# Altium schematic symbol library Schlib1.最小系统.SchLib: 25 symbols
Pins are listed as number, name and electrical type; pins without a type are passive.

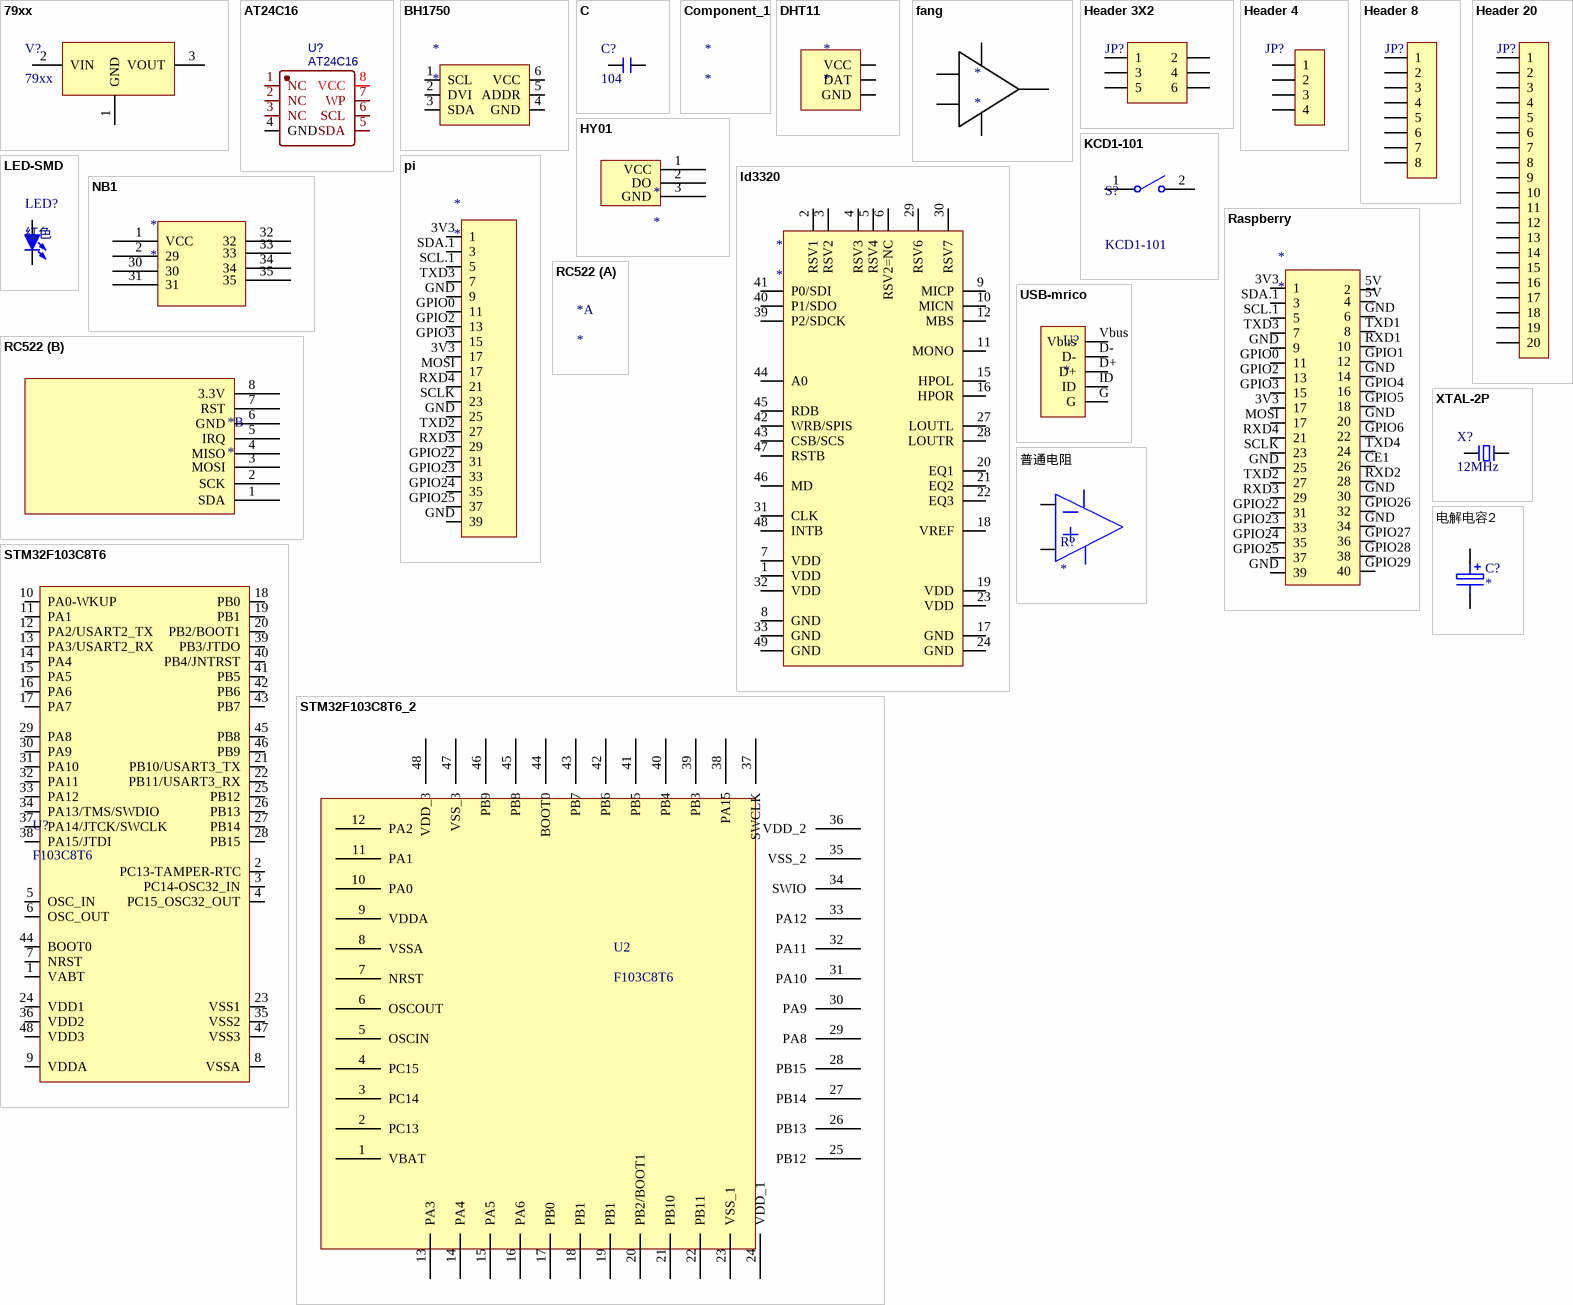
[diagram p0: symbols 79xx to 电解电容2]

## 79xx
designator V?
线性稳压芯片; 版权归属: 源创客; BOM名称: 线性稳压芯片; 学习资源: www.ooocke.com
footprint SOT-223
pins: 1 GND, 2 VIN, 3 VOUT

## AT24C16
designator U?
BOM_Manufacturer: IDCHIP; Contributor: LCSC; BOM_Supplier: LCSC; BOM_Supplier Part: C561263; BOM_Manufacturer Part: AT24C16; spicePre: U; spiceSymbolName: AT24C16
footprint SOP-8_L5.0-W4.0-P1.27-LS6.0-BL
pins: 1 NC, 2 NC, 3 NC, 4 GND, 5 SDA, 6 SCL, 7 WP, 8 VCC

## BH1750
designator *
pins: 1 SCL, 2 DVI, 3 SDA, 4 GND, 5 ADDR, 6 VCC

## C
designator C?, comment 104
无极性贴片电容; 版权归属: 源创客; BOM名称: 无极性贴片电容; 学习资源: www.ooocke.com
footprint 0603C (1.6mmx0.8mm（蒜米工坊）)
pins: 1, 2

## Component_1
designator *

## DHT11
designator *
pins: SDA.23 GND, SDA.24 DAT, VCC

## fang
designator *

## Header 3X2
designator JP?, comment Header3X2  (value not drawn)
3*2P接插件; 版权归属: 源创客; BOM名称: 3*2P接插件; 学习资源: www.ooocke.com
footprint HDR2.54-LI-2x3P (双排排针，3x2脚)
pins: 1, 2, 3, 4, 5, 6

## Header 4
designator JP?, comment HDR-1X4  (value not drawn)
4P接插件; 版权归属: 源创客; BOM名称: 4P接插件; 学习资源: www.ooocke.com
footprint HDR2.54-LI-4P (排针，4脚)
footprint HDR2.54-LI-4P (排针，4脚)
pins: 1, 2, 3, 4

## Header 8
designator JP?, comment HDR-1X8  (value not drawn)
8P接插件; 版权归属: 源创客; BOM名称: 8P接插件; 学习资源: www.ooocke.com
footprint HDR2.54-LI-8P (排针，8脚)
pins: 1, 2, 3, 4, 5, 6, 7, 8

## Header 20
designator JP?, comment HDR-1X20  (value not drawn)
20P接插件; 版权归属: 源创客; BOM名称: 20P接插件; 学习资源: www.ooocke.com
footprint HDR2.54-LI-20P (排针，20脚)
footprint HDR2.54-LI-20P (排针，20脚)
pins: 1, 2, 3, 4, 5, 6, 7, 8, 9, 10, 11, 12, 13, 14, 15, 16, 17, 18, 19, 20

## HY01
designator *
pins: 1 VCC, 2 DO, 3 GND

## KCD1-101
designator S?
1路单刀船型开关; 版权归属: 源创客; BOM名称: 1路单刀船型开关; 学习资源: www.ooocke.com
footprint TSW SMD-3*6*5 (3*6*5mm)
pins: 1, 2

## ld3320
designator *
pins: 1 VDD, 2 RSV1, 3 RSV2, 4 RSV3, 5 RSV4, 6 RSV2=NC, 7 VDD, 8 GND, 9 MICP, 10 MICN, 11 MONO, 12 MBS, 15 HPOL, 16 HPOR, 17 GND, 18 VREF, 19 VDD, 20 EQ1, 21 EQ2, 22 EQ3, 23 VDD, 24 GND, 27 LOUTL, 28 LOUTR, 29 RSV6, 30 RSV7, 31 CLK, 32 VDD, 33 GND, 39 P2/SDCK, 40 P1/SDO, 41 P0/SDI, 42 WRB/SPIS, 43 CSB/SCS, 44 A0, 45 RDB, 46 MD, 47 RSTB, 48 INTB, 49 GND

## LED-SMD
designator LED?, comment 红色
贴片LED; 版权归属: 源创客; BOM名称: 贴片LED; 学习资源: www.ooocke.com
footprint LED 0603G (绿色0603LED)
pins: 1 A, 2 K

## NB1
designator *
pins: 1 VCC, 2 29, 30, 31, 32, 33, 34, 35

## pi
designator *
pins: 3V3 1, 3V3 17, GND 9, GND 25, GND 39, GPIO0 11, GPIO2 13, GPIO3 15, GPIO22 31, GPIO23 33, GPIO24 35, GPIO25 37, MOSI 17, RXD3 29, RXD4 21, SCL.1 5, SCLK 23, SDA.1 3, TXD2 27, TXD3 7

## Raspberry
designator *
pins: 3V3 1, 3V3 17, 5V 4, 5V 2, CE1 26, GND 9, GND 25, GND 39, GND 14, GND 20, GND 30, GND 34, GND 6, GPIO0 11, GPIO1 12, GPIO2 13, GPIO3 15, GPIO4 16, GPIO5 18, GPIO6 22, GPIO22 31, GPIO23 33, GPIO24 35, GPIO25 37, GPIO26 32, GPIO27 36, GPIO28 38, GPIO29 40, MOSI 17, RXD1 10, RXD2 28, RXD3 29, RXD4 21, SCL.1 5, SCLK 23, SDA.1 3, TXD1 8, TXD2 27, TXD3 7, TXD4 24

## RC522
designator *
part B pins: 1 SDA, 2 SCK, 3 MOSI, 4 MISO, 5 IRQ, 6 GND, 7 RST, 8 3.3V

## STM32F103C8T6
designator U?, comment F103C8T6
IC
footprint LQFP-48_M (Thin QFP, 48-Leads, Body 7x7mm, Pitch 0.5mm, IPC Low Density)
pins: 1 VABT, 2 PC13-TAMPER-RTC, 3 PC14-OSC32_IN, 4 PC15_OSC32_OUT, 5 OSC_IN, 6 OSC_OUT, 7 NRST, 8 VSSA, 9 VDDA, 10 PA0-WKUP, 11 PA1, 12 PA2/USART2_TX, 13 PA3/USART2_RX, 14 PA4, 15 PA5, 16 PA6, 17 PA7, 18 PB0, 19 PB1, 20 PB2/BOOT1, 21 PB10/USART3_TX, 22 PB11/USART3_RX, 23 VSS1, 24 VDD1, 25 PB12, 26 PB13, 27 PB14, 28 PB15, 29 PA8, 30 PA9, 31 PA10, 32 PA11, 33 PA12, 34 PA13/TMS/SWDIO, 35 VSS2, 36 VDD2, 37 PA14/JTCK/SWCLK, 38 PA15/JTDI, 39 PB3/JTDO, 40 PB4/JNTRST, 41 PB5, 42 PB6, 43 PB7, 44 BOOT0, 45 PB8, 46 PB9, 47 VSS3, 48 VDD3

## STM32F103C8T6_2
designator U2, comment F103C8T6
IC
footprint LQFP-48_M (Thin QFP, 48-Leads, Body 7x7mm, Pitch 0.5mm, IPC Low Density)
pins: 1 VBAT, 2 PC13, 3 PC14, 4 PC15, 5 OSCIN, 6 OSCOUT, 7 NRST, 8 VSSA, 9 VDDA, 10 PA0, 11 PA1, 12 PA2, 13 PA3, 14 PA4, 15 PA5, 16 PA6, 17 PB0, 18 PB1, 19 PB1, 20 PB2/BOOT1, 21 PB10, 22 PB11, 23 VSS_1, 24 VDD_1, 25 PB12, 26 PB13, 27 PB14, 28 PB15, 29 PA8, 30 PA9, 31 PA10, 32 PA11, 33 PA12, 34 SWIO, 35 VSS_2, 36 VDD_2, 37 SWCLK, 38 PA15, 39 PB3, 40 PB4, 41 PB5, 42 PB6, 43 PB7, 44 BOOT0, 45 PB8, 46 PB9, 47 VSS_3, 48 VDD_3

## USB-mrico
designator U?
footprint USB-micro_A (micro型USB ，5.7*7.8*2.5mm)
pins: D+, D-, G, ID, Vbus

## XTAL-2P
designator X?, comment 12MHz
2脚无源脚晶振; 版权归属: 源创客; BOM名称: 2脚无源脚晶振; 学习资源: www.ooocke.com
footprint OSC UM-5 - duplicate
pins: 1, 2

## 普通电阻
designator R?
footprint R 0603_M (1/10W贴片电阻)

## 电解电容2
designator C?
footprint CAP 1.5*4*8 (脚距1.5mm直径4mm高度8mm)
pins: 1, 2 E